# EAGLE library part SN65HVD76 (library texas)
RS-485 DRIVER 3.3V, Full-Duplex RS-485, 12kV IEC ESD, 50Mbps
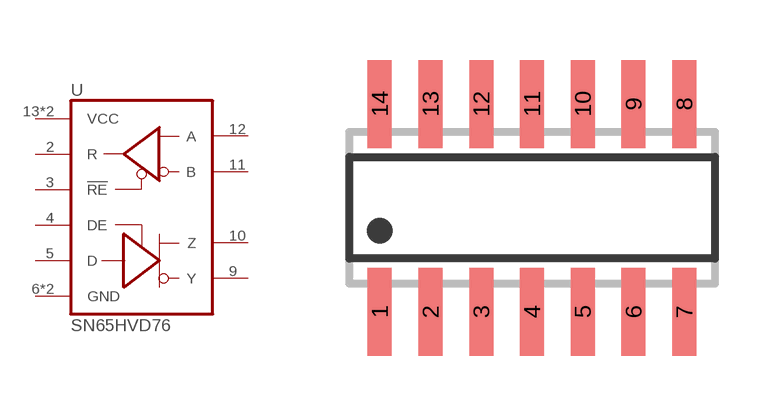
[diagram p97: symbol with the pads of SO14; footprint SO14]

Designator prefix U

## SN65HVD76D  [SO14]
2  R  out
3  !RE!  in
4  DE  in
5  D  in
6  GND  pwr
7  GND  pwr
9  Y
10  Z
11  B
12  A
13  VCC  pwr
14  VCC  pwr

## Footprint SO14 (pad centres in mm)
SMALL OUTLINE INTEGRATED CIRCUIT body 3.9 mm/JEDEC MS-012AC
smd 0.6 x 2.2: 1 -3.81,-2.6; 2 -2.54,-2.6; 3 -1.27,-2.6; 4 0,-2.6; 5 1.27,-2.6; 6 2.54,-2.6; 7 3.81,-2.6; 8 3.81,2.6; 9 2.54,2.6; 10 1.27,2.6; 11 0,2.6; 12 -1.27,2.6; 13 -2.54,2.6; 14 -3.81,2.6